# Altium footprint library PG-TO263-3-2.PcbLib: 1 footprints
Each footprint in its own frame and in the unit in brackets; x right, y up, seen from the top. Pads: shape width x height; smd on the part's side, far side on the other; paste and mask are expansions set on the pad; w line width, h text height; cw(c..) or ccw(c..) is an arc to the next point about the centre after c.
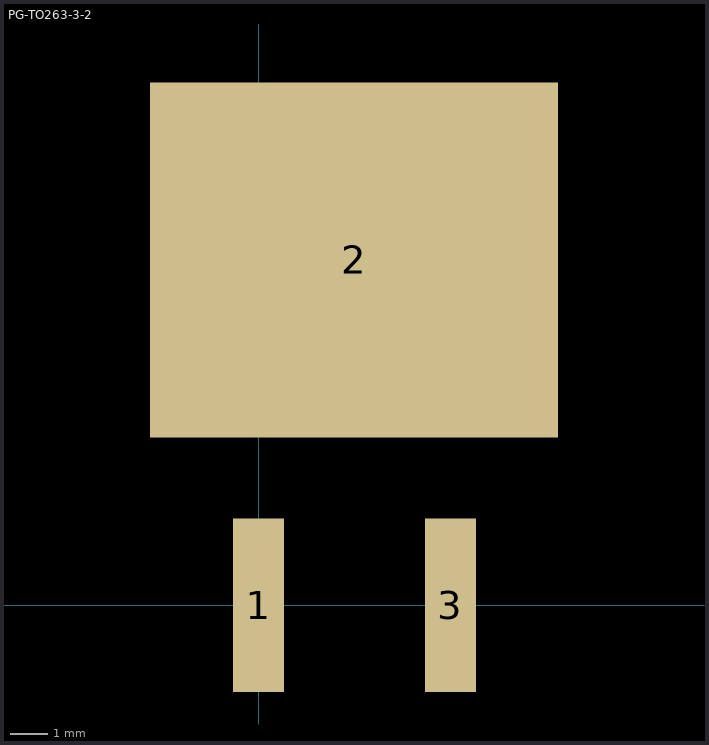
[diagram p0: the footprint, top view; thin cyan lines are the x and y axes]

## PG-TO263-3-2 [mm]
height 4.4
pads (3):
  rect 1.35x4.6 smd: 1(0,0) 3(5.08,0)
  rect 10.8x9.4 smd: 2(2.525,9.15)
3D body: height 4.4, standoff 0, extent -2.875,4.45 7.925,13.85
3D body: height 1, standoff 0, extent -0.675,-2.3 0.675,4.45
3D body: height 1, standoff 0, extent 4.4,-2.3 5.75,4.45